# Altium schematic symbol library IC_Texas_Instruments_TLV70218DBVT.SchLib: 1 symbol
Pins are listed as number, name and electrical type; pins without a type are passive.

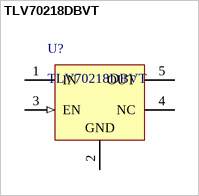
[diagram p0: symbol TLV70218DBVT]

## TLV70218DBVT
designator U?
Single Output LDO, 300 mA, Fixed 1.8 V Output, 2 to 5.5 V Input, with Low IQ, 5-pin SOT-23 (DBV), -40 to 125 degC, Green (RoHS & no Sb/Br); Manufacturer: Texas Instruments; Accuracy(%): 2; Iq(Typ)(mA): 0.03; Vout Adj(Min)(V): 1.8; SubFamily: Single Channel LDO; Vin(Max)(V): 5.5; Iout(Max)(A): 0.3; Vdo(Typ)(mV): 220; Vin(Min)(V): 2; Eco-Plan: Green (RoHS & no Sb/Br); PartNumber: TLV70218DBVT; ComponentLink1Description: Manufacturer URL; ComponentLink2Description: Datasheet; DatasheetVersion: SLVSAG6B; ComponentLink3URL: http://www.ti.com/litv/pdf/mpds018i; Vout Adj(Max)(V): 1.8; ComponentLink1URL: http://www.ti.com/; Fixed Output Options(V): 1.8; Code_JEDEC: MO-178; ComponentLink2URL: http://www.ti.com/general/docs/lit/getliterature.tsp?genericPartNumber=TLV70218&fileType=pdf; ComponentLink3Description: Package Specification; PackageVersion: 4073253-4/K; Mounting Technology: Surface Mount; PackageReference: DBV5; PackageDescription: 5-Pin Plastic Small Outline, Body 1.60 Ãƒâ€” 2.90 mm, Pitch 0.95 mm
footprint TI-DBV5_N (SOT23, 5-Leads, Body 2.9x1.6mm, Pitch 0.95mm, IPC Medium Density)
pins: 1 IN (power) "Input supply voltage", 2 GND (power) "Ground", 3 EN (in) "Enable input", 4 NC "No connected", 5 OUT (power) "Regulated output voltage"